# Altium integrated library ON Semi Signal Management Smart Card & SIM Card Interfaces.IntLib: 14 symbols (part 1 of 2)
Pins are listed as number, name and electrical type; pins without a type are passive.

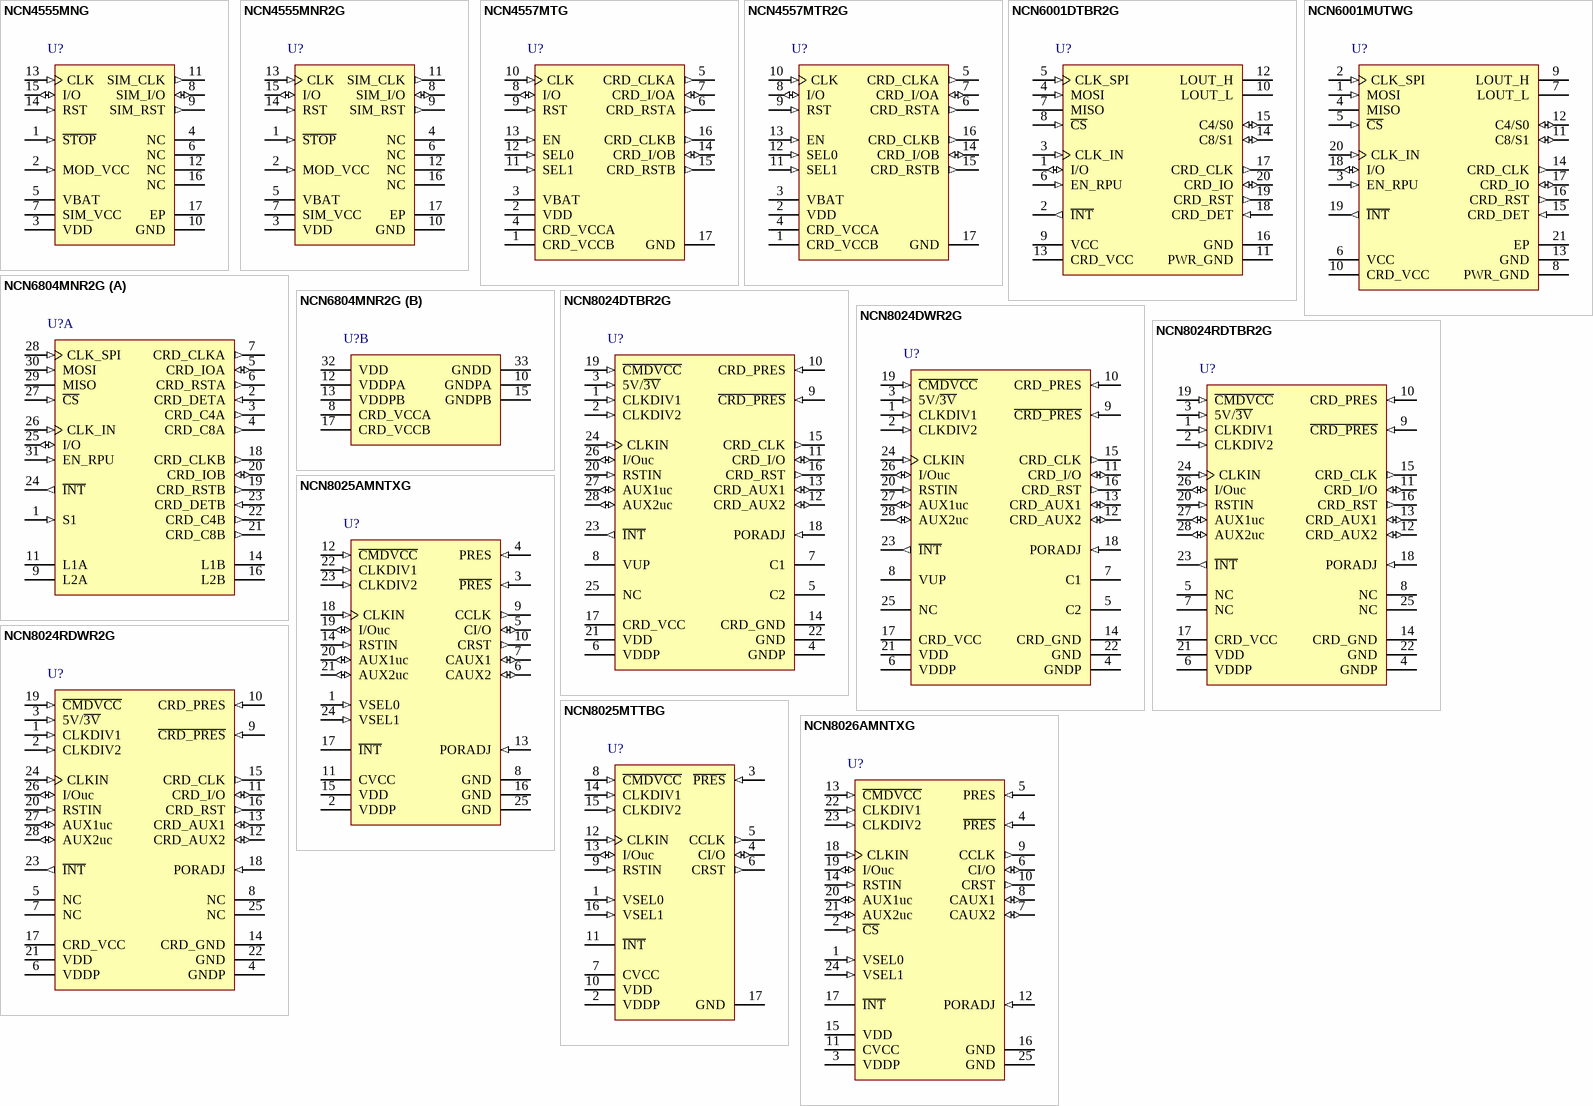
[diagram p0: symbols NCN4555MNG to NCN8026AMNTXG]

## NCN4555MNG
designator U?
1.8 / 3 V SIM Card Power Supply and Level Shifter, 1.6 to 5.5 V, -40 to 85 degC, 16-Pin QFN, Pb-Free, Tube; Manufacturer: On Semiconductor; PartNumber: NCN4555MNG; fClock Max (MHz): 5; VCC Max (V): 5.5; VCC Min (V): 1.6; DatasheetVersion: Rev. 3; PackageVersion: Rev. O, 09/2004; PackageReference: QFN-16-488AK-01; PackageDescription: 16-Pin Quad Flat No-Lead, Body 3 x 3 mm, Pitch 0.5 mm; Supplier 1: Digi-Key; Supplier Part Number 1: NCN4555MNG-ND; Supplier 2: Mouser; Supplier Part Number 2: 863-NCN4555MNG; Packing: Tube; RoHS: TRUE; Mounting Technology: Surface Mount; ComponentLink1Description: Manufacturer URL; ComponentLink1URL: http://www.onsemi.com/; ComponentLink2Description: Datasheet; ComponentLink2URL: http://www.onsemi.cn/pub_link/Collateral/NCN4555-D.PDF; ComponentLink3Description: Package Specification; ComponentLink3URL: http://www.onsemi.cn/pub_link/Collateral/488AK.PDF
footprint ONSC-QFN-16-488AK-01_N (QFN, 16-Leads, Body 3x3mm, Pitch 0.5mm, Thermal Pad 1.75x1.75mm, IPC Medium Density)
footprint ONSC-QFN-16-488AK-01_L (QFN, 16-Leads, Body 3x3mm, Pitch 0.5mm, Thermal Pad 1.75x1.75mm, IPC High Density)
footprint ONSC-QFN-16-488AK-01_M (QFN, 16-Leads, Body 3x3mm, Pitch 0.5mm, Thermal Pad 1.75x1.75mm, IPC Low Density)
pins: 1 ~{STOP} (in) "Power Down Mode pin: S\T\O\P\ = Low-->Low current shutdown mode activated S\T\O\P\ = High-->Normal Operation A Low level on this pin resets the SIM interface, switching off the SIM_VCC.", 2 MOD_VCC (in) "The signal present on this pin programs the SIM_VCC value:MOD_VCC = Low-->SIM_VCC = 1.8 V MOD_VCC = High-->SIM_VCC = 3 V", 3 VDD (power) "This pin is connected to the system controller power supply. It configures the level shifter input stage to accept the signals coming from the microprocessor. A 0.1 uF capacitor shall be used to bypass the power supply (See Datasheet)", 4 NC "No Connect", 5 VBAT (power) "DC-DC converter supply input. The input voltage ranges from 2.7V up to 5.5V. This pin has to be bypass by a 0.1  uF capacitor.", 6 NC "No Connect", 7 SIM_VCC (power) "This pin is connected to the SIM card power supply pin. An internal LDO converter is programmable by the external MPU to supply either 1.8 V or 3.0 V output voltage. An external 1.0 uF minimum ceramic capacitor recommended (See Datasheet)", 8 SIM_I/O (io) "This pin handles the connection to the serial I/O of the card connector. A bidirectional level translator adapts the serial I/O signal between the card and the micro controller. A 14 kohm (typical) pullup resistor provides a (See Datasheet)", 9 SIM_RST (out) "This pin is connected to the RESET pin of the card connector. A level translator adapts the external Reset (RST) signal to the SIM card.", 10 GND (power) "This pin is the GROUND reference for the integrated circuit and associated signals. Care must be taken to avoid voltage spikes when the device operates in a normal operation.", 11 SIM_CLK (out) "This pin is connected to the CLOCK pin of the card connector. The CLOCK (CLK) signal comes from the external clock generator, the internal level shifter being used to adapt the voltage defined for the SIM_VCC.", 12 NC "No Connect", 13 CLK (in) "The clock signal, coming from the external controller, must have a Duty Cycle within the Min/Max values defined by the specification (typically 50%). The built-in level shifter translates the input signal to the externa(See Datasheet)", 14 RST (in) "The RESET signal present at this pin is connected to the SIM card through the internal level shifter which translates the level according to the SIM_VCC programmed value.", 15 I/O (io) "This pin is connected to an external microcontroller or cellular phone management unit. A bidirectional level translator adapts the serial I/O signal between the smart card and the external controller. A built-in constan(See Datasheet)", 16 NC "No Connect", 17 EP (power)

## NCN4555MNR2G
designator U?
1.8 / 3 V SIM Card Power Supply and Level Shifter, 1.6 to 5.5 V, -40 to 85 degC, 16-Pin QFN, Pb-Free, Tape and Reel; Manufacturer: On Semiconductor; PartNumber: NCN4555MNR2G; fClock Max (MHz): 5; VCC Max (V): 5.5; VCC Min (V): 1.6; DatasheetVersion: Rev. 3; PackageVersion: Rev. O, 09/2004; PackageReference: QFN-16-488AK-01; PackageDescription: 16-Pin Quad Flat No-Lead, Body 3 x 3 mm, Pitch 0.5 mm; Supplier 1: Digi-Key; Supplier Part Number 1: NCN4555MNR2GOSTR-ND; Supplier 2: Digi-Key; Supplier Part Number 2: NCN4555MNR2GOSCT-ND; Supplier 3: Digi-Key; Supplier Part Number 3: NCN4555MNR2GOSDKR-ND; Supplier 4: Newark; Supplier Part Number 4: 26K4812; Supplier 5: Mouser; Supplier Part Number 5: 863-NCN4555MNR2G; Packing: Tape and Reel; RoHS: TRUE; Mounting Technology: Surface Mount; ComponentLink1Description: Manufacturer URL; ComponentLink1URL: http://www.onsemi.com/; ComponentLink2Description: Datasheet; ComponentLink2URL: http://www.onsemi.cn/pub_link/Collateral/NCN4555-D.PDF; ComponentLink3Description: Package Specification; ComponentLink3URL: http://www.onsemi.cn/pub_link/Collateral/488AK.PDF
footprint ONSC-QFN-16-488AK-01_N (QFN, 16-Leads, Body 3x3mm, Pitch 0.5mm, Thermal Pad 1.75x1.75mm, IPC Medium Density)
footprint ONSC-QFN-16-488AK-01_L (QFN, 16-Leads, Body 3x3mm, Pitch 0.5mm, Thermal Pad 1.75x1.75mm, IPC High Density)
footprint ONSC-QFN-16-488AK-01_M (QFN, 16-Leads, Body 3x3mm, Pitch 0.5mm, Thermal Pad 1.75x1.75mm, IPC Low Density)
pins: 1 ~{STOP} (in) "Power Down Mode pin: S\T\O\P\ = Low-->Low current shutdown mode activated S\T\O\P\ = High-->Normal Operation A Low level on this pin resets the SIM interface, switching off the SIM_VCC.", 2 MOD_VCC (in) "The signal present on this pin programs the SIM_VCC value:MOD_VCC = Low-->SIM_VCC = 1.8 V MOD_VCC = High-->SIM_VCC = 3 V", 3 VDD (power) "This pin is connected to the system controller power supply. It configures the level shifter input stage to accept the signals coming from the microprocessor. A 0.1 uF capacitor shall be used to bypass the power supply (See Datasheet)", 4 NC "No Connect", 5 VBAT (power) "DC-DC converter supply input. The input voltage ranges from 2.7V up to 5.5V. This pin has to be bypass by a 0.1  uF capacitor.", 6 NC "No Connect", 7 SIM_VCC (power) "This pin is connected to the SIM card power supply pin. An internal LDO converter is programmable by the external MPU to supply either 1.8 V or 3.0 V output voltage. An external 1.0 uF minimum ceramic capacitor recommended (See Datasheet)", 8 SIM_I/O (io) "This pin handles the connection to the serial I/O of the card connector. A bidirectional level translator adapts the serial I/O signal between the card and the micro controller. A 14 kohm (typical) pullup resistor provides a (See Datasheet)", 9 SIM_RST (out) "This pin is connected to the RESET pin of the card connector. A level translator adapts the external Reset (RST) signal to the SIM card.", 10 GND (power) "This pin is the GROUND reference for the integrated circuit and associated signals. Care must be taken to avoid voltage spikes when the device operates in a normal operation.", 11 SIM_CLK (out) "This pin is connected to the CLOCK pin of the card connector. The CLOCK (CLK) signal comes from the external clock generator, the internal level shifter being used to adapt the voltage defined for the SIM_VCC.", 12 NC "No Connect", 13 CLK (in) "The clock signal, coming from the external controller, must have a Duty Cycle within the Min/Max values defined by the specification (typically 50%). The built-in level shifter translates the input signal to the externa(See Datasheet)", 14 RST (in) "The RESET signal present at this pin is connected to the SIM card through the internal level shifter which translates the level according to the SIM_VCC programmed value.", 15 I/O (io) "This pin is connected to an external microcontroller or cellular phone management unit. A bidirectional level translator adapts the serial I/O signal between the smart card and the external controller. A built-in constan(See Datasheet)", 16 NC "No Connect", 17 EP (power)

## NCN4557MTG
designator U?
1.8 / 3.0 V Dual SIM / SAM / Smart Card Power Supply and Level Shifter, 1.8 to 5.5 V, -40 to 85 degC, 16-Pin QFN, Pb-Free, Tube; Manufacturer: On Semiconductor; PartNumber: NCN4557MTG; fClock Max (MHz): 5; VCC Max (V): 5.5; VCC Min (V): 1.8; DatasheetVersion: Rev. 0; PackageVersion: Rev. O, 09/2004; PackageReference: QFN-16-488AK-01; PackageDescription: 16-Pin Quad Flat No-Lead, Body 3 x 3 mm, Pitch 0.5 mm; Supplier 1: Digi-Key; Supplier Part Number 1: NCN4557MTG-ND; Supplier 2: Mouser; Supplier Part Number 2: 863-NCN4557MTG; Packing: Tube; RoHS: TRUE; Mounting Technology: Surface Mount; ComponentLink1Description: Manufacturer URL; ComponentLink1URL: http://www.onsemi.com/; ComponentLink2Description: Datasheet; ComponentLink2URL: http://www.onsemi.cn/pub_link/Collateral/NCN4557-D.PDF; ComponentLink3Description: Package Specification; ComponentLink3URL: http://www.onsemi.cn/pub_link/Collateral/488AK.PDF
footprint ONSC-QFN-16-488AK-01_N (QFN, 16-Leads, Body 3x3mm, Pitch 0.5mm, Thermal Pad 1.75x1.75mm, IPC Medium Density)
footprint ONSC-QFN-16-488AK-01_L (QFN, 16-Leads, Body 3x3mm, Pitch 0.5mm, Thermal Pad 1.75x1.75mm, IPC High Density)
footprint ONSC-QFN-16-488AK-01_M (QFN, 16-Leads, Body 3x3mm, Pitch 0.5mm, Thermal Pad 1.75x1.75mm, IPC Low Density)
pins: 1 CRD_VCCB (power) "This pin is connected to the Card power supply pin (C1) (Card B).The corresponding LDO is programmable using the pins SEL0, SEL1 and ENABLE to provide 1.8 V, 3.0 V or 0 V (disable). CRD_VCCB can not be active when CRD_VCCA (See Datasheet)", 2 VDD (power) "This pin is connected to the controller power supply. It configures the level shifter input stage to accept the signal coming from the microcontroller. A 0.1 uF capacitor shall be used to bypass the power supply voltage. (See Datasheet)", 3 VBAT (power) "DC/DC converter power supply input shared by the LDOs A & B. This pin has to be bypassed by a 0.1 uF capacitor.", 4 CRD_VCCA (power) "This pin is connected to the Card power supply pin (C1) (Card A).The corresponding LDO is programmable using the pins SEL0, SEL1 and ENABLE to provide 1.8 V, 3.0 V or 0 V (disable). CRD_VCCA can not be active when CRD_VCCB (See Datasheet)", 5 CRD_CLKA (out) "This pin is connected to the clock pin (C3) of the card connector A. The clock (CLK) signal comes from the external clock generator (standalone clock source or microcontroller). The internal level shifter adapts the voltage (See Datasheet)", 6 CRD_RSTA (out) "This pin is connected to the RESET pin (C2) of the card connector A. A level translator adapts the RESET signal from the microcontroller to the external card A. The output current is internally limited to 15 mA max. (See Datasheet)", 7 CRD_I/OA (io) "This pin handles the connection to the serial I/O pin (C7) of the card connector A. A bidirectional level translator adapts the serial I/O signal between the card and the micro-controller. A 14 kohm (typical) pull?(See Datasheet)", 8 I/O (io) "This pin is connected to an external microcontroller or cellular phone management unit (Baseband circuit or PMU). A bidirectional level translator adapts the serial I/O signal between the smart card A or B and the controller.(See Datasheet)", 9 RST (in) "The RESET signal present at this pin is connected to the card through the internal level shifter which translates the levels according to the CRD_VCCA or B programmed value.", 10 CLK (in) "The clock signal, coming from the external controller, must have a Duty Cycle within the Min/Max values defined by the specification (typically 50%). The built-in level shifter translates the input signal to the externa(See Datasheet)", 11 SEL1 (in) "SEL1 allows the selection of the Card A or B (Table 1). SEL1 = Low ->Card A selected SEL1 = High -> Card B selected", 12 SEL0 (in) "SEL0 allows programming CRD_VCCA or B (1.8 V or 3.0 V) (Table 1). SEL0 = Low -> CRD_VCCA/B = 1.8 V SEL0 = High -> CRD_VCCA/B = 3.0 V", 13 EN (in) "Power Up and Down pin: ENABLE = Low -> Low current shutdown mode activated ENABLE = High -> Normal Operation A Low level on this pin switches off the card interface.", 14 CRD_I/OB (io) "This pin handles the connection to the serial I/O pin (C7) of the card connector B. A bidirectional level translator adapts the serial I/O signal between the card and the micro-controller. A 14 kohm (typical) pull?(See Datasheet)", 15 CRD_RSTB (out) "This pin is connected to the RESET pin of the card connector B. A level translator adapts the RESET signal from the microcontroller to the external card B. The output current is internally limited by a 15 mA max current. (See Datasheet)", 16 CRD_CLKB (out) "This pin is connected to the clock pin (C3) of the card connector B. The clock (CLK) signal comes from the external clock generator (standalone clock source or microcontroller). The internal level shifter adapts the voltage (See Datasheet)", 17 GND (power) "This pin number is the Exposed Pad which is the electrical Ground of the device. It must be soldered to the PCB ground plane."

## NCN4557MTR2G
designator U?
1.8 / 3.0 V Dual SIM / SAM / Smart Card Power Supply and Level Shifter, 1.8 to 5.5 V, -40 to 85 degC, 16-Pin QFN, Pb-Free, Tape and Reel; Manufacturer: On Semiconductor; PartNumber: NCN4557MTR2G; fClock Max (MHz): 5; VCC Max (V): 5.5; VCC Min (V): 1.8; DatasheetVersion: Rev. 0; PackageVersion: Rev. O, 09/2004; PackageReference: QFN-16-488AK-01; PackageDescription: 16-Pin Quad Flat No-Lead, Body 3 x 3 mm, Pitch 0.5 mm; Supplier 1: Digi-Key; Supplier Part Number 1: NCN4557MTR2G-ND; Supplier 2: Mouser; Supplier Part Number 2: 863-NCN4557MTR2G; Packing: Tape and Reel; RoHS: TRUE; Mounting Technology: Surface Mount; ComponentLink1Description: Manufacturer URL; ComponentLink1URL: http://www.onsemi.com/; ComponentLink2Description: Datasheet; ComponentLink2URL: http://www.onsemi.cn/pub_link/Collateral/NCN4557-D.PDF; ComponentLink3Description: Package Specification; ComponentLink3URL: http://www.onsemi.cn/pub_link/Collateral/488AK.PDF
footprint ONSC-QFN-16-488AK-01_N (QFN, 16-Leads, Body 3x3mm, Pitch 0.5mm, Thermal Pad 1.75x1.75mm, IPC Medium Density)
footprint ONSC-QFN-16-488AK-01_L (QFN, 16-Leads, Body 3x3mm, Pitch 0.5mm, Thermal Pad 1.75x1.75mm, IPC High Density)
footprint ONSC-QFN-16-488AK-01_M (QFN, 16-Leads, Body 3x3mm, Pitch 0.5mm, Thermal Pad 1.75x1.75mm, IPC Low Density)
pins: 1 CRD_VCCB (power) "This pin is connected to the Card power supply pin (C1) (Card B).The corresponding LDO is programmable using the pins SEL0, SEL1 and ENABLE to provide 1.8 V, 3.0 V or 0 V (disable). CRD_VCCB can not be active when CRD_VCCA (See Datasheet)", 2 VDD (power) "This pin is connected to the controller power supply. It configures the level shifter input stage to accept the signal coming from the microcontroller. A 0.1 uF capacitor shall be used to bypass the power supply voltage. (See Datasheet)", 3 VBAT (power) "DC/DC converter power supply input shared by the LDOs A & B. This pin has to be bypassed by a 0.1 uF capacitor.", 4 CRD_VCCA (power) "This pin is connected to the Card power supply pin (C1) (Card A).The corresponding LDO is programmable using the pins SEL0, SEL1 and ENABLE to provide 1.8 V, 3.0 V or 0 V (disable). CRD_VCCA can not be active when CRD_VCCB (See Datasheet)", 5 CRD_CLKA (out) "This pin is connected to the clock pin (C3) of the card connector A. The clock (CLK) signal comes from the external clock generator (standalone clock source or microcontroller). The internal level shifter adapts the voltage (See Datasheet)", 6 CRD_RSTA (out) "This pin is connected to the RESET pin (C2) of the card connector A. A level translator adapts the RESET signal from the microcontroller to the external card A. The output current is internally limited to 15 mA max. (See Datasheet)", 7 CRD_I/OA (io) "This pin handles the connection to the serial I/O pin (C7) of the card connector A. A bidirectional level translator adapts the serial I/O signal between the card and the micro-controller. A 14 kohm (typical) pull?(See Datasheet)", 8 I/O (io) "This pin is connected to an external microcontroller or cellular phone management unit (Baseband circuit or PMU). A bidirectional level translator adapts the serial I/O signal between the smart card A or B and the controller.(See Datasheet)", 9 RST (in) "The RESET signal present at this pin is connected to the card through the internal level shifter which translates the levels according to the CRD_VCCA or B programmed value.", 10 CLK (in) "The clock signal, coming from the external controller, must have a Duty Cycle within the Min/Max values defined by the specification (typically 50%). The built-in level shifter translates the input signal to the externa(See Datasheet)", 11 SEL1 (in) "SEL1 allows the selection of the Card A or B (Table 1). SEL1 = Low ->Card A selected SEL1 = High -> Card B selected", 12 SEL0 (in) "SEL0 allows programming CRD_VCCA or B (1.8 V or 3.0 V) (Table 1). SEL0 = Low -> CRD_VCCA/B = 1.8 V SEL0 = High -> CRD_VCCA/B = 3.0 V", 13 EN (in) "Power Up and Down pin: ENABLE = Low -> Low current shutdown mode activated ENABLE = High -> Normal Operation A Low level on this pin switches off the card interface.", 14 CRD_I/OB (io) "This pin handles the connection to the serial I/O pin (C7) of the card connector B. A bidirectional level translator adapts the serial I/O signal between the card and the micro-controller. A 14 kohm (typical) pull?(See Datasheet)", 15 CRD_RSTB (out) "This pin is connected to the RESET pin of the card connector B. A level translator adapts the RESET signal from the microcontroller to the external card B. The output current is internally limited by a 15 mA max current. (See Datasheet)", 16 CRD_CLKB (out) "This pin is connected to the clock pin (C3) of the card connector B. The clock (CLK) signal comes from the external clock generator (standalone clock source or microcontroller). The internal level shifter adapts the voltage (See Datasheet)", 17 GND (power) "This pin number is the Exposed Pad which is the electrical Ground of the device. It must be soldered to the PCB ground plane."

## NCN6001DTBR2G
designator U?
Compact Smart Card Interface IC, 2.7 to 5.5 V, -25 to 85 degC, 20-Pin TSSOP, Pb-Free, Tape and Reel; Manufacturer: On Semiconductor; PartNumber: NCN6001DTBR2G; fClock Max (MHz): 40; VCC Max (V): 5.5; VCC Min (V): 2.7; DatasheetVersion: Rev. 5; PackageVersion: Rev. C, 10/2006; PackageReference: TSSOP-20-948E-02; PackageDescription: 20-Pin Small Outline Package, Body 6.5 x 4.4 mm, Pitch 0.65 mm; Supplier 1: Digi-Key; Supplier Part Number 1: NCN6001DTBR2GOSTR-ND; Supplier 2: Digi-Key; Supplier Part Number 2: NCN6001DTBR2GOSCT-ND; Supplier 3: Digi-Key; Supplier Part Number 3: NCN6001DTBR2GOSDKR-ND; Supplier 4: Farnell; Supplier Part Number 4: 1364572; Supplier 5: Newark; Supplier Part Number 5: 42K1763; Supplier 6: Newark; Supplier Part Number 6: 29X6177; Supplier 7: Mouser; Supplier Part Number 7: 863-NCN6001DTBR2G; Packing: Tape and Reel; RoHS: TRUE; Mounting Technology: Surface Mount; ComponentLink1Description: Manufacturer URL; ComponentLink1URL: http://www.onsemi.com/; ComponentLink2Description: Datasheet; ComponentLink2URL: http://www.onsemi.cn/pub_link/Collateral/NCN6001-D.PDF; ComponentLink3Description: Package Specification; ComponentLink3URL: http://www.onsemi.com/pub_link/Collateral/948E-02.PDF
footprint ONSC-TSSOP-20-948E-02_V (SOP, 20-Leads, Body 6.6x4.5mm, Pitch 0.65mm)
pins: 1 I/O (io) "This pin is connected to an external microcontroller interface. A bidirectional level translator adapts the serial I/O signal between the smart card and the microcontroller. The level translator is enabled when C\S\ = L, the (See Datasheet)", 2 ~{INT} (out) "This pin is activated LOW when a card has been inserted and detected by CRD_DET pin. Similarly, an interrupt is generated when the CRD_VCC output is overloaded, or when the card has been extracted whatever be the transaction (See Datasheet)", 3 CLK_IN (in) "The built-in Schmitt trigger receiver makes this pin suitable for a large type of clock signal (Figure 30). This pin can be connected to either the microcontroller master clock, or to a crystal signal, to drive th(See Datasheet)", 4 MOSI (in) "Master Out Slave In: SPI Data Input from the external microcontroller. This byte contents the address of the selected chip among the four possible, together with the programming code for a given interface.", 5 CLK_SPI (in) "Clock Signal to synchronize the SPI data transfer. The built-in Schmitt trigger receiver makes this pin compatible with a wide range of input clock signal (Figure 30). This clock is fully independent from the CLK_IN signa(See Datasheet)", 6 EN_RPU (in) "This pin is used to activate the I/O internal pullup resistor according to the here below true table: EN_RPU = Low I/O Pullup resistor disconnected EN_RPU = High   I/O Pullup resistor connected When two or more NCN6001 chips (See Datasheet)", 7 MISO (hiz) "Master In Slave Out: SPI Data Output from the NCN6001. This byte carries the state of the interface, the serial transfer being achieved according to the programmed mode (Table 2), using the same CLK_SPI signal and during the (See Datasheet)", 8 ~{CS} (in) "This pin synchronizes the SPI communication and provides the chip address and selected functions. All the NCN6001 functions, both programming and card transaction, are disabled when C\S\ = H.", 9 VCC (power) "This pin is connected to the NCN6001 supply voltage and must be bypassed to ground by a 10  uF/6.0 V capacitor. Since tantalum capacitors have relative high ESR, using low ESR ceramic type (MURATA X5R, Resr < 100 m ohm ) is (See Datasheet)", 10 LOUT_L "The Low Side of the external inductor is connected between this pin and pin 12 to provide the DC/DC function. The current flowing into this inductor is internally sensed and no external shunt resistor is used. Typically, (See Datasheet)", 11 PWR_GND (power) "This pin is the Power Ground associated with the built-in DC/DC converter and must be connected to the system ground together with GROUND pin 16. Using good quality ground plane is recommended to avoid spikes on the logi(See Datasheet)", 12 LOUT_H "The High Side of the external inductor is connected between this pin and pin 10 to activate the DC/DC function. The built-in NMOS and PMOS devices provide the switching function together with the CRD_VCC voltag(See Datasheet)", 13 CRD_VCC (power) "This pin provides the power to the external card. It is the logic level “1” for CRD_IO, CRD_RST, CRD_C4, CRD_C8 and CRD_CLK signals. The energy stored by the DC/DC external inductor Lout must be smoothed by a 10  uF/(See Datasheet)", 14 C8/S1 (io) "Select Identification (MISO, Bit 0): see Figure 9. The pin is driven by an open drain stage, the pullup resistor being connected to the CRD_VCC supply. When the pin is used as a logic input (asynchronous cards), the positive (See Datasheet)", 15 C4/S0 (io) "Auxiliary mixed analog/digital line to handle either a synchronous card, or as Chip Select Identification (MISO, Bit 1): see Figure 9. The pin is driven by an open drain stage, the pullup resistor being connected to the (See Datasheet)", 16 GND (power) "The logic and low level analog signals shall be connected to this ground pin. This pin must be externally connected to the PWR_GND pin 12. The designer must make sure no high current transients are shared with the low signal (See Datasheet)", 17 CRD_CLK (out) "This pin is connected to the CLK pin of the card connector. The CRD_CLK signal comes from the clock selector circuit output. An internal active pull down NMOS device forces this pin to Ground during either the CRD_VCC (See Datasheet)", 18 CRD_DET (in) "The signal coming from the external card connector is used to detect the presence of the card. A built-in pullup low current source biases this pin High, making it active LOW, assuming one side of the external switch i(See Datasheet)", 19 CRD_RST (out) "This pin is connected to the RESET pin of the card connector. A level translator adapts the RESET signal from the microcontroller to the external card. The output current is internally limited to 15 mA. The CRD_RST is (See Datasheet)", 20 CRD_IO (io) "This pin handles the connection to the serial I/O pin of the card connector. A bidirectional level translator adapts the serial I/O signal between the card and the microcontroller. An internal active pull down MOS device (See Datasheet)"

## NCN6001MUTWG
designator U?
Compact Smart Card Interface IC, 2.7 to 5.5 V, -25 to 85 degC, 20-Pin LLGA, Pb-Free, Tape and Reel; Manufacturer: On Semiconductor; PartNumber: NCN6001MUTWG; fClock Max (MHz): 40; VCC Max (V): 5.5; VCC Min (V): 2.7; DatasheetVersion: Rev. 5; PackageVersion: Rev. B; PackageReference: LLGA-20-513AC-01; PackageDescription: 20-Pin Land Grid Array, Body 6 x 5 mm, Pitch 0.8 mm; Supplier 1: Digi-Key; Supplier Part Number 1: NCN6001MUTWGOSTR-ND; Supplier 2: Digi-Key; Supplier Part Number 2: NCN6001MUTWGOSCT-ND; Supplier 3: Digi-Key; Supplier Part Number 3: NCN6001MUTWGOSDKR-ND; Supplier 4: Farnell; Supplier Part Number 4: 2382438; Supplier 5: Newark; Supplier Part Number 5: 37X6667; Supplier 6: Newark; Supplier Part Number 6: 11X3582; Supplier 7: Mouser; Supplier Part Number 7: 863-NCN6001MUTWG; Packing: Tape and Reel; RoHS: TRUE; Mounting Technology: Surface Mount; ComponentLink1Description: Manufacturer URL; ComponentLink1URL: http://www.onsemi.com/; ComponentLink2Description: Datasheet; ComponentLink2URL: http://www.onsemi.cn/pub_link/Collateral/NCN6001-D.PDF; ComponentLink3Description: Package Specification; ComponentLink3URL: http://www.onsemi.cn/pub_link/Collateral/NCN6001-D.PDF
footprint ONSC-LLGA-20-513AC-01_V (LLGA, 20-Leads, Body 6x5mm, Pitch 0.8mm)
pins: 1 MOSI (in) "Master Out Slave In: SPI Data Input from the external microcontroller. This byte contents the address of the selected chip among the four possible, together with the programming code for a given interface.", 2 CLK_SPI (in) "Clock Signal to synchronize the SPI data transfer. The built-in Schmitt trigger receiver makes this pin compatible with a wide range of input clock signal (Figure 30). This clock is fully independent from the CLK_IN signa(See Datasheet)", 3 EN_RPU (in) "This pin is used to activate the I/O internal pullup resistor according to the here below true table: EN_RPU = Low I/O Pullup resistor disconnected EN_RPU = High   I/O Pullup resistor connected When two or more NCN6001 chips (See Datasheet)", 4 MISO (hiz) "Master In Slave Out: SPI Data Output from the NCN6001. This byte carries the state of the interface, the serial transfer being achieved according to the programmed mode (Table 2), using the same CLK_SPI signal and during the (See Datasheet)", 5 ~{CS} (in) "This pin synchronizes the SPI communication and provides the chip address and selected functions. All the NCN6001 functions, both programming and card transaction, are disabled when C\S\ = H.", 6 VCC (power) "This pin is connected to the NCN6001 supply voltage and must be bypassed to ground by a 10  uF/6.0 V capacitor. Since tantalum capacitors have relative high ESR, using low ESR ceramic type (MURATA X5R, Resr < 100 m ohm ) is (See Datasheet)", 7 LOUT_L "The Low Side of the external inductor is connected between this pin and pin 12 to provide the DC/DC function. The current flowing into this inductor is internally sensed and no external shunt resistor is used. Typically, (See Datasheet)", 8 PWR_GND (power) "This pin is the Power Ground associated with the built-in DC/DC converter and must be connected to the system ground together with GROUND pin 16. Using good quality ground plane is recommended to avoid spikes on the logi(See Datasheet)", 9 LOUT_H "The High Side of the external inductor is connected between this pin and pin 10 to activate the DC/DC function. The built-in NMOS and PMOS devices provide the switching function together with the CRD_VCC voltag(See Datasheet)", 10 CRD_VCC (power) "This pin provides the power to the external card. It is the logic level “1” for CRD_IO, CRD_RST, CRD_C4, CRD_C8 and CRD_CLK signals. The energy stored by the DC/DC external inductor Lout must be smoothed by a 10  uF/(See Datasheet)", 11 C8/S1 (io) "Select Identification (MISO, Bit 0): see Figure 9. The pin is driven by an open drain stage, the pullup resistor being connected to the CRD_VCC supply. When the pin is used as a logic input (asynchronous cards), the positive (See Datasheet)", 12 C4/S0 (io) "Auxiliary mixed analog/digital line to handle either a synchronous card, or as Chip Select Identification (MISO, Bit 1): see Figure 9. The pin is driven by an open drain stage, the pullup resistor being connected to the (See Datasheet)", 13 GND (power) "The logic and low level analog signals shall be connected to this ground pin. This pin must be externally connected to the PWR_GND pin 12. The designer must make sure no high current transients are shared with the low signal (See Datasheet)", 14 CRD_CLK (out) "This pin is connected to the CLK pin of the card connector. The CRD_CLK signal comes from the clock selector circuit output. An internal active pull down NMOS device forces this pin to Ground during either the CRD_VCC (See Datasheet)", 15 CRD_DET (in) "The signal coming from the external card connector is used to detect the presence of the card. A built-in pullup low current source biases this pin High, making it active LOW, assuming one side of the external switch i(See Datasheet)", 16 CRD_RST (out) "This pin is connected to the RESET pin of the card connector. A level translator adapts the RESET signal from the microcontroller to the external card. The output current is internally limited to 15 mA. The CRD_RST is (See Datasheet)", 17 CRD_IO (io) "This pin handles the connection to the serial I/O pin of the card connector. A bidirectional level translator adapts the serial I/O signal between the card and the microcontroller. An internal active pull down MOS device (See Datasheet)", 18 I/O (io) "This pin is connected to an external microcontroller interface. A bidirectional level translator adapts the serial I/O signal between the smart card and the microcontroller. The level translator is enabled when C\S\ = L, the (See Datasheet)", 19 ~{INT} (out) "This pin is activated LOW when a card has been inserted and detected by CRD_DET pin. Similarly, an interrupt is generated when the CRD_VCC output is overloaded, or when the card has been extracted whatever be the transaction (See Datasheet)", 20 CLK_IN (in) "The built-in Schmitt trigger receiver makes this pin suitable for a large type of clock signal (Figure 30). This pin can be connected to either the microcontroller master clock, or to a crystal signal, to drive th(See Datasheet)", 21 EP

## NCN6804MNR2G
designator U?
Dual Smart Card Interface IC with SPI Programming Interface, 2.7 to 5.5 V, -40 to 85 degC, 32-Pin QFN, Pb-Free, Tape and Reel; Manufacturer: On Semiconductor; PartNumber: NCN6804MNR2G; fClock Max (MHz): 40; VCC Max (V): 5.5; VCC Min (V): 2.7; DatasheetVersion: Rev. 1; PackageVersion: Rev. O; PackageReference: QFN-32-488AM-01_O; PackageDescription: 32-Pin Quad Flat No-Lead, Body 5 x 5 mm, Pitch 0.5 mm; Supplier 1: Digi-Key; Supplier Part Number 1: NCN6804MNR2GOSTR-ND; Supplier 2: Digi-Key; Supplier Part Number 2: NCN6804MNR2GOSCT-ND; Supplier 3: Newark; Supplier Part Number 3: 57M9787; Supplier 4: Mouser; Supplier Part Number 4: 863-NCN6804MNR2G; Packing: Tape and Reel; RoHS: TRUE; Mounting Technology: Surface Mount; ComponentLink1Description: Manufacturer URL; ComponentLink1URL: http://www.onsemi.com/; ComponentLink2Description: Datasheet; ComponentLink2URL: http://www.onsemi.cn/pub_link/Collateral/NCN6804%20-D.PDF; ComponentLink3Description: Package Specification; ComponentLink3URL: http://www.onsemi.com/pub_link/Collateral/MC100EPT622-D.PDF
footprint ONSC-QFN-32-488AM-01_O_V (QFN, 32-Leads, Body 5x5mm, Pitch 0.5mm, Thermal Pad 3.2x3.2mm)
part A pins: 1 S1 (in) "Address pin (Chip Identification pin) - allows having in parallel up to 2 NCN6804 devices (4 interfaces) managed by 1 Chip Select pin only (C\S\) - multiple interface application case. When one dual interface only is used (See Datasheet)", 2 CRD_DETA (in) "The signal coming from the external card connector is used to detect the presence of the card. A built-in pull-up low current source biases this pin HIGH, making it active LOW, assuming one side of the external switch(See Datasheet)", 3 CRD_C4A (out) "Auxiliary mixed analog/digital line to handle synchronous card connected when used to the card pin C4. An accelerator circuit makes sure the output positive going rise time is fully within the ISO/EMV specifications", 4 CRD_C8A (out) "Auxiliary mixed analog/digital line to handle synchronous card connected when used to the card pin C8. An accelerator circuit makes sure the output positive going rise time is fully within the ISO/EMV specifications.", 5 CRD_IOA (io) "This pin handles the connection to the serial I/O pin of the card connector. A bi-directional level translator adapts the serial I/O signal between the card and the uC. An internal active pull down device forces this pi(See Datasheet)", 6 CRD_RSTA (out) "This pin is connected to the RESET pin of the card connector. A level translator adapts the RESET signal from the  C (through the SPI bus) to the external card. The output current is internally limited to 15mA. The CRD_RST (See Datasheet)", 7 CRD_CLKA (out) "Clock pin connected to the card pin C3. An internal active pull down device forces this pin to GROUND during the CRD_VCC start up sequence, or when CRD_VCC = 0V. The rise and fall slopes, either FAST or SLO\W, of this signal (See Datasheet)", 9 L2A "The high side of the external inductor A.", 11 L1A "The low side of the external inductor A.", 14 L1B "The low side of the external inductor B.", 16 L2B "The high side of the external inductor B.", 18 CRD_CLKB (out) "Clock pin connected to the card pin C3. An internal active pull down device forces this pin to GROUND during the CRD_VCC start up sequence, or when CRD_VCC = 0V. The rise and fall slopes, either FAST or SLO\W, of this signal (See Datasheet)", 19 CRD_RSTB (out) "This pin is connected to the RESET pin of the card connector. A level translator adapts the RESET signal from the  C (through the SPI bus) to the external card. The output current is internally limited to 15mA. The CRD_RST (See Datasheet)", 20 CRD_IOB (io) "This pin handles the connection to the serial I/O pin of the card connector. A bi-directional level translator adapts the serial I/O signal between the card and the uC. An internal active pull down device forces this pi(See Datasheet)", 21 CRD_C8B (out) "Auxiliary mixed analog/digital line to handle synchronous card connected when used to the card pin C8. An accelerator circuit makes sure the output positive going rise time is fully within the ISO/EMV specifications.", 22 CRD_C4B (out) "Auxiliary mixed analog/digital line to handle synchronous card connected when used to the card pin C4. An accelerator circuit makes sure the output positive going rise time is fully within the ISO/EMV specifications", 23 CRD_DETB (in) "The signal coming from the external card connector is used to detect the presence of the card. A built-in pull-up low current source biases this pin HIGH, making it active LOW, assuming one side of the external switch(See Datasheet)", 24 ~{INT} (out) "This pin is activated LOW when a card has been inserted and detected by the CRD_DETA or CRD_DETB pins in either of the external ports. Similarly an interrupt is generated when the CRD_VCCA or B output is overloaded, or when (See Datasheet)", 25 I/O (io) "This pin is connected to an external micro-controller (uC) interface. A bi-directional level translator adapts the serial I/O signal between the smart card and the uC. The level translator is enabled when C\S\ = LOW, (See Datasheet)", 26 CLK_IN (in) "This pin (high impedance) can be connected to either the uC master clock or to a crystal oscillator clock to drive the external smart cards. The signal is fed to the internal clock selector circuit and translated to the (See Datasheet)", 27 ~{CS} (in) "This pin synchronizes and enables the SPI communication. All the NCN6804 functions, both programming and card transaction, are disabled when C\S\ = HIGH.", 28 CLK_SPI (in) "Clock Signal to synchronize the SPI data transfer. This clock is fully independent from the CLK_IN signal and does not play any role with the data transaction (I/O - CRD_I/O).", 29 MISO (hiz) "Master In Slave Out: SPI Data Output from the NCN6804. This STATUS byte carries the state of the interface, the serial transfer being achieved according to the programmed mode (Table 2), using the same CLK_SPI signal and (See Datasheet)", 30 MOSI (in) "Master Out Slave In: SPI Data Input from the uC. This byte contains the address of the selected chip among the two possible (bit b6), together with the programming code for a given interface. See Table 2.", 31 EN_RPU (in) "This pin is used to activate the I/O internal pull-up resistor such as: EN_RPU = Low => I/O Pull-up resistor disconnected EN_RPU = High => I/O Pull-up resistor connected When two or more NCN6804 chips share the(See Datasheet)"
part B pins: 8 CRD_VCCA (power) "Power supply to the external card (card pin C1). An external capacitor Cout = 10 uF minimum is required. In the event of a CRD_VCC under-voltage issue, the NCN6804 detects the situation and feedback the information in th(See Datasheet)", 10 GNDPA (power) "DC/DC converter A power ground pin.", 12 VDDPA (power) "DC/DC converter A power supply input (Cbypass_min = 4.7 uF).", 13 VDDPB (power) "DC/DC converter B power supply input (Cbypass_min = 4.7 uF).", 15 GNDPB (power) "DC/DC converter B power ground pin.", 17 CRD_VCCB (power) "Power supply to the external card (card pin C1). An external capacitor Cout = 10 uF minimum is required. In the event of a CRD_VCC under-voltage issue, the NCN6804 detects the situation and feedback the information in th(See Datasheet)", 32 VDD (power) "This pin is connected to the system controller power supply (Cbypass_min = 100 nF). When VDD is below 2.5 V the CRD_VCCA or B is disabled. The NCN6804 goes into a shutdown mode.", 33 GNDD (power) "Digital/analog Ground. This pin is the Exposed Pad and is the Ground for the digital/analog circuit section. It needs to be connected to the PCB Ground."

## NCN8024DTBR2G
designator U?
Smart Card Interface IC, 2.7 to 5.5 V, -40 to 85 degC, 28-Pin TSSOP, Pb-Free, Tape and Reel; Manufacturer: On Semiconductor; PartNumber: NCN8024DTBR2G; fClock Max (MHz): 18; VCC Max (V): 5.5; VCC Min (V): 2.7; DatasheetVersion: Rev. 4; PackageVersion: Rev. A, 10/2011; PackageReference: TSSOP-28-948AA; PackageDescription: 28-Pin Small Outline Package, Body 9.7 x 4.4 mm, Pitch 0.65 mm; Supplier 1: Digi-Key; Supplier Part Number 1: NCN8024DTBR2G-ND; Supplier 2: Mouser; Supplier Part Number 2: 863-NCN8024DTBR2G; Packing: Tape and Reel; RoHS: TRUE; Mounting Technology: Surface Mount; ComponentLink1Description: Manufacturer URL; ComponentLink1URL: http://www.onsemi.com/; ComponentLink2Description: Datasheet; ComponentLink2URL: http://www.onsemi.cn/pub_link/Collateral/NCN8024-D.PDF; ComponentLink3Description: Package Specification; ComponentLink3URL: http://www.onsemi.cn/pub_link/Collateral/948AA.PDF
footprint ONSC-TSSOP-28-948AA_V (SOP, 28-Leads, Body 9.8x4.5mm, Pitch 0.65mm)
pins: 1 CLKDIV1 (in) "This pin coupled with CLKDIV2 is used to program the clock frequency division ratio.", 2 CLKDIV2 (in) "This pin coupled with CLKDIV2 is used to program the clock frequency division ratio.", 3 5V/~{3V} (in) "Allows selecting card VCC power supply voltage. CRD_VCC = 5 V when 5V/3\V\ = HIGH or 3 V when 5V/3\V\ = LOW", 4 GNDP (power) "DC/DC Converter Power Supply Ground", 5 C2 "DC/DC Converter Capacitor pin number 2 - A 100 nF capacitor is connected between this pin and pin C1. The capacitor has to feature an ESR lower than 100 mohm", 6 VDDP (power) "DC/DC Converter Power Supply Voltage", 7 C1 "DC/DC Converter Capacitor pin number 1 - A 100 nF capacitor is connected between this pin and pin C2. The capacitor has to feature an ESR lower than 100 mohm", 8 VUP (power) "Charge-pump output - a very low ESR 100 nF capacitor (ESR< 100 mohm) is connected between this pin and GNDP", 9 ~{CRD_PRES} (in) "Card presence pin active (card present) when C\R\D\_\P\R\E\S\ = Low. A built-in debounce timer of about 8 ms is activated when a card is inserted.", 10 CRD_PRES (in) "Card presence pin active (card present) when CRD_PRES = High. A built-in debounce timer of about 8 ms is activated when a card is inserted.", 11 CRD_I/O (io) "This pin handles the connection to the serial I/O (C7) of the card connector. A bi-directional level translator adapts the serial I/O signal between the card and the micro controller. An 11 kohm (typical) pullup resistor to (See Datasheet)", 12 CRD_AUX2 (io) "This pin handles the connection to the chip card’s serial auxiliary AUX2 I/O pin (C8). A bi-directional level translator adapts the serial I/O signal between the card and the micro controller. An 11 kohm (typical) pullu(See Datasheet)", 13 CRD_AUX1 (io) "This pin handles the connection to the chip card’s serial auxiliary AUX1 I/O pin (C4). A bi-directional level translator adapts the serial I/O signal between the card and the micro controller. An 11 kohm (typical) pullu(See Datasheet)", 14 CRD_GND (power) "Card Ground", 15 CRD_CLK (out) "This pin is connected to the CLOCK card connector’s pin (Chip card’s pin C3). The Clock signal comes from the CLKIN input through clock dividers and level shifter.", 16 CRD_RST (out) "This pin is connected to the chip card’s RESET pin (C2) through the card connector. A level translator adapts the external Reset (RSTIN) signal to the smart card.", 17 CRD_VCC (power) "This pin is connected to the smart card power supply pin. An internal DC/DC converter is programmable using the pin 5V/3\V\ to supply either 5 V or 3 V output voltage. An external distributed ceramic capacitor (200 nF + 330 (See Datasheet)", 18 PORADJ (in) "Power-on reset threshold adjustment input pin for changing the reset threshold with an external resistor power divider. Recommended to be connected to ground when unused.", 19 ~{CMDVCC} (in) "Command VCC pin. Activation sequence Enable/Disable pin (active Low). The activation sequence is enabled by toggling C\M\D\V\C\C\ High to Low and when a card is present.", 20 RSTIN (in) "This Reset input connected to the host and referred to VDD (microcontroller side), is connected to the smart card Reset pin through the internal level shifter which translates the level according to the CRD_VCC programmed (See Datasheet)", 21 VDD (power) "This pin is connected to the system controller power supply. It configures the level shifter input stage to accept the signals coming from the controller. A 0.1 uF capacitor shall be used to bypass the power supply voltage. (See Datasheet)", 22 GND (power) "Ground", 23 ~{INT} (out) "The interrupt request is activated LOW on this pin. This is enabled when a card is present and the card presence is detected by CRD_PRES or C\R\D\_\P\R\E\S\ pins. Similarly an interrupt is generated when CRD_VCC is (See Datasheet)", 24 CLKIN (in) "Clock Input for External Clock", 25 NC "Unconnected", 26 I/Ouc (io) "This pin is connected to an external micro-controller. A bi-directional level translator adapts the serial I/O signal between the smart card and the external controller. A built-in constant 11 kohm (typical) resistor (See Datasheet)", 27 AUX1uc (io) "This pin is connected to an external micro-controller. A bi-directional level translator adapts the serial C4 signal between the smart card and the external controller. A built-in constant 11 kohm (typical) resistor provides (See Datasheet)", 28 AUX2uc (io) "This pin is connected to an external micro-controller. A bi-directional level translator adapts the serial C8 signal between the smart card and the external controller. A built-in constant 11 kohm (typical) resistor provides (See Datasheet)"